# Altium schematic symbol library 2.二极管原理库.SchLib: 14 symbols
Pins are listed as number, name and electrical type; pins without a type are passive.

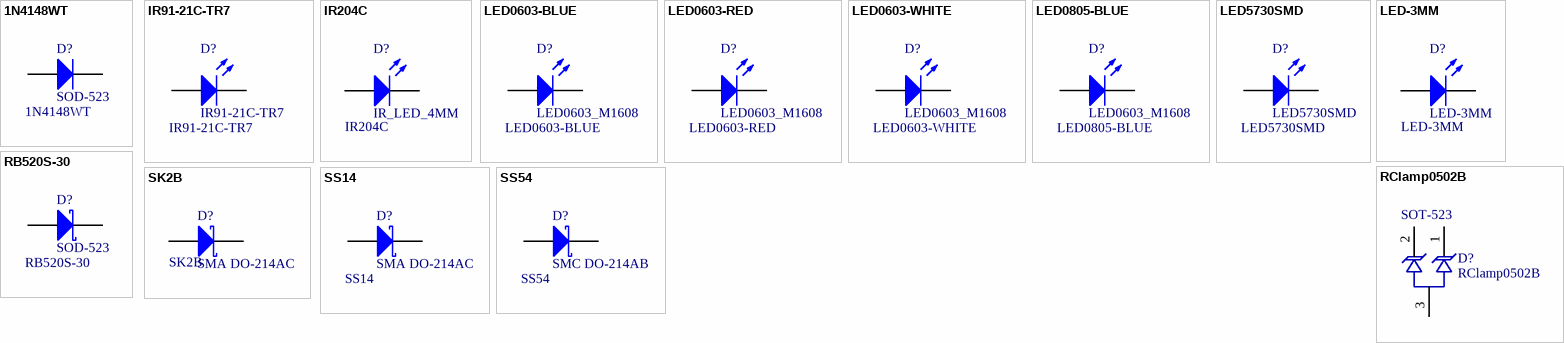
[diagram p0: symbols 1N4148WT to SS54]

## 1N4148WT
designator D?, comment SOD-523  value 1N4148WT
FAST SWITCHING DIODES
footprint SOD-523
pins: 1 A, 2 K

## IR91-21C-TR7
designator D?
Infrared LED; Value: IR91-21C-TR7
footprint IR91-21C-TR7
pins: 1 A, 2 K

## IR204C
designator D?, comment IR_LED_4MM  value IR204C
IR204C
footprint IR_LED_4MM
pins: 1 A, 2 K

## LED0603-BLUE
designator D?, comment LED0603_M1608  value LED0603-BLUE
LED
footprint LED0603_M1608 (Chip Capacitor, 2-Leads, Body 1.6x0.8mm, IPC Medium Density)
pins: 1 A, 2 K

## LED0603-RED
designator D?, comment LED0603_M1608  value LED0603-RED
LED
footprint LED0603_M1608 (Chip Capacitor, 2-Leads, Body 1.6x0.8mm, IPC Medium Density)
pins: 1 A, 2 K

## LED0603-WHITE
designator D?, comment LED0603_M1608  value LED0603-WHITE
LED
footprint LED0603_M1608 (Chip Capacitor, 2-Leads, Body 1.6x0.8mm, IPC Medium Density)
pins: 1 A, 2 K

## LED0805-BLUE
designator D?, comment LED0603_M1608  value LED0805-BLUE
LED
footprint LED0805_M2013
pins: 1 A, 2 K

## LED5730SMD
designator D?
LED; Value: LED5730SMD
footprint LED5730SMD
pins: 1 A, 2 K

## LED-3MM
designator D?
Value: LED-3MM
footprint LED-3MM
pins: 1 A, 2 K

## RB520S-30
designator D?, comment SOD-523  value RB520S-30
SCHOTTKY BARRIER  RECTIFIERS
footprint SOD-523
pins: 1 A, 2 K

## RClamp0502B
designator D?, comment SOT-523  value RClamp0502B
Ultra-Low Capacitance TVS for ESD and CDE Protection
footprint SOT-523 (SOT23, 3-Leads, Body 1.7x1.8mm (max), Pitch 0.50mm, IPC Medium Density)
pins: 1, 2, 3

## SK2B
designator D?, comment SMA DO-214AC  value SK2B
2.0A SURFACE MOUNT SCHOTTKY BARRIER  RECTIFIERS
footprint SMA DO-214AC
pins: 1 A, 2 K

## SS14
designator D?, comment SMA DO-214AC  value SS14
1.0 A Schottky Barrier Rectifiers
footprint SMA DO-214AC
pins: 1 A, 2 K

## SS54
designator D?, comment SMC DO-214AB  value SS54
SURFACE MOUNT SCHOTTKY BARRIER  RECTIFIERS
footprint SMC DO-214AB
pins: 1 A, 2 K